# EAGLE library part R-NET8 (library MyLibrary)
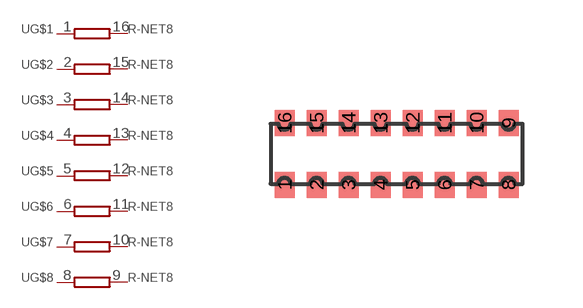
[diagram p9: symbol with the pads of NET8; footprint NET8]

Designator prefix -; gates G$1=RESISTOR G$2=RESISTOR G$3=RESISTOR G$4=RESISTOR G$5=RESISTOR G$6=RESISTOR G$7=RESISTOR G$8=RESISTOR

## R-NET8  [NET8]
1  G$1:P$1
2  G$2:P$1
3  G$3:P$1
4  G$4:P$1
5  G$5:P$1
6  G$6:P$1
7  G$7:P$1
8  G$8:P$1
9  G$8:P$2
10  G$7:P$2
11  G$6:P$2
12  G$5:P$2
13  G$4:P$2
14  G$3:P$2
15  G$2:P$2
16  G$1:P$2

## Footprint NET8 (pad centres in mm)
smd 0.5 x 0.65: 1 -2.8,-0.775; 2 -2,-0.775; 3 -1.2,-0.775; 4 -0.4,-0.775; 5 0.4,-0.775; 6 1.2,-0.775; 7 2,-0.775; 8 2.8,-0.775; 9 2.8,0.775; 10 2,0.775; 11 1.2,0.775; 12 0.4,0.775; 13 -0.4,0.775; 14 -1.2,0.775; 15 -2,0.775; 16 -2.8,0.775